# EAGLE library part PIC16F18857 (library Microchip)
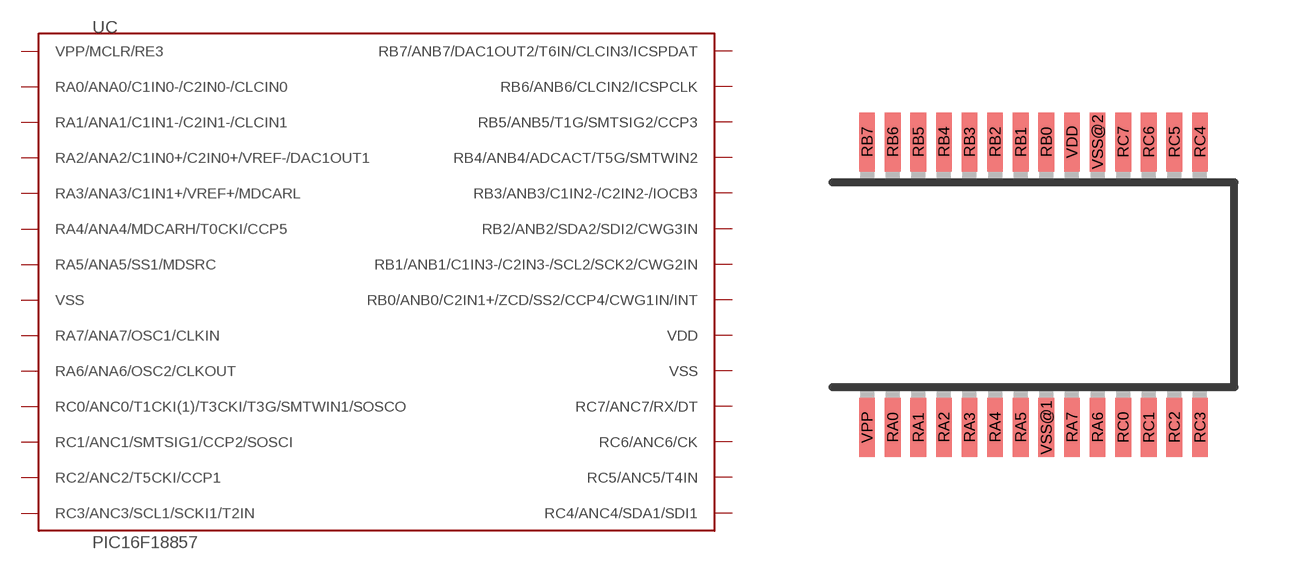
[diagram p147: symbol with the pads of SSOP28; footprint SSOP28]

Designator prefix UC

## PIC16F18857  [SSOP28]
RA0  RA0/ANA0/C1IN0-/C2IN0-/CLCIN0
RA1  RA1/ANA1/C1IN1-/C2IN1-/CLCIN1
RA2  RA2/ANA2/C1IN0+/C2IN0+/VREF-/DAC1OUT1
RA3  RA3/ANA3/C1IN1+/VREF+/MDCARL
RA4  RA4/ANA4/MDCARH/T0CKI/CCP5
RA5  RA5/ANA5/SS1/MDSRC
RA6  RA6/ANA6/OSC2/CLKOUT
RA7  RA7/ANA7/OSC1/CLKIN
RB0  RB0/ANB0/C2IN1+/ZCD/SS2/CCP4/CWG1IN/INT
RB1  RB1/ANB1/C1IN3-/C2IN3-/SCL2/SCK2/CWG2IN
RB2  RB2/ANB2/SDA2/SDI2/CWG3IN
RB3  RB3/ANB3/C1IN2-/C2IN2-/IOCB3
RB4  RB4/ANB4/ADCACT/T5G/SMTWIN2
RB5  RB5/ANB5/T1G/SMTSIG2/CCP3
RB6  RB6/ANB6/CLCIN2/ICSPCLK
RB7  RB7/ANB7/DAC1OUT2/T6IN/CLCIN3/ICSPDAT
RC0  RC0/ANC0/T1CKI(1)/T3CKI/T3G/SMTWIN1/SOSCO
RC1  RC1/ANC1/SMTSIG1/CCP2/SOSCI
RC2  RC2/ANC2/T5CKI/CCP1
RC3  RC3/ANC3/SCL1/SCKI1/T2IN
RC4  RC4/ANC4/SDA1/SDI1
RC5  RC5/ANC5/T4IN
RC6  RC6/ANC6/CK
RC7  RC7/ANC7/RX/DT
VDD  VDD
VPP  VPP/MCLR/RE3
VSS@1  VSS
VSS@2  VSS

## Footprint SSOP28 (pad centres in mm)
Shrink Small Outline Package package type SS
smd 0.4 x 1.5: RA0 -3.575,-3.625; RA1 -2.925,-3.625; RA2 -2.275,-3.625; RA3 -1.625,-3.625; RA4 -0.975,-3.625; RA5 -0.325,-3.625; RA6 1.625,-3.625; RA7 0.975,-3.625; RB0 0.325,3.625; RB1 -0.325,3.625; RB2 -0.975,3.625; RB3 -1.625,3.625; RB4 -2.275,3.625; RB5 -2.925,3.625; RB6 -3.575,3.625; RB7 -4.225,3.625; RC0 2.275,-3.625; RC1 2.925,-3.625; RC2 3.575,-3.625; RC3 4.225,-3.625; RC4 4.225,3.625; RC5 3.575,3.625; RC6 2.925,3.625; RC7 2.275,3.625; VDD 0.975,3.625; VPP -4.225,-3.625; VSS@1 0.325,-3.625; VSS@2 1.625,3.625